# EAGLE library part DRV8833PWPR (library DRV8833PWPR)
10.8-V, 2-A dual H-bridge motor driver with current regulation 16-HTSSOP -40 to 85 Check availability <https://pricing.snapeda.com/parts/DRV8833PWPR/Texas%20Instruments/view-part?ref=eda>
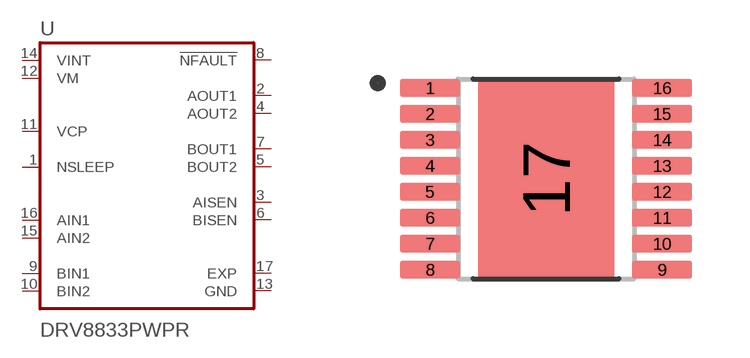
[diagram p0: symbol with the pads of IC_DRV8833PWPR; footprint IC_DRV8833PWPR]

Designator prefix U

## DRV8833PWPR (AVAILABILITY: In Stock; DESCRIPTION: 10.8-V, 2-A dual H-bridge motor driver with current regulation; MF: Texas Instruments; MP: DRV8833PWPR; PACKAGE: HTSSOP-16 Texas Instruments; PRICE: None; PURCHASE-URL: https://pricing.snapeda.com/search/part/DRV8833PWPR/?ref=eda)  [IC_DRV8833PWPR]
1  NSLEEP  in
2  AOUT1  out
3  AISEN
4  AOUT2  out
5  BOUT2  out
6  BISEN
7  BOUT1  out
8  !NFAULT  out
9  BIN1  in
10  BIN2  in
11  VCP
12  VM  pwr
13  GND  pwr
14  VINT  pwr
15  AIN2  in
16  AIN1  in
17  EXP  pas

## Footprint IC_DRV8833PWPR (pad centres in mm)
smd 1.5 x 0.45: 1 -2.9,2.275; 2 -2.9,1.625; 3 -2.9,0.975; 4 -2.9,0.325; 5 -2.9,-0.325; 6 -2.9,-0.975; 7 -2.9,-1.625; 8 -2.9,-2.275; 9 2.9,-2.275; 10 2.9,-1.625; 11 2.9,-0.975; 12 2.9,-0.325; 13 2.9,0.325; 14 2.9,0.975; 15 2.9,1.625; 16 2.9,2.275
smd 3.4 x 5: 17 0,0